# EAGLE library part QUAD_A/D (library rhoban)
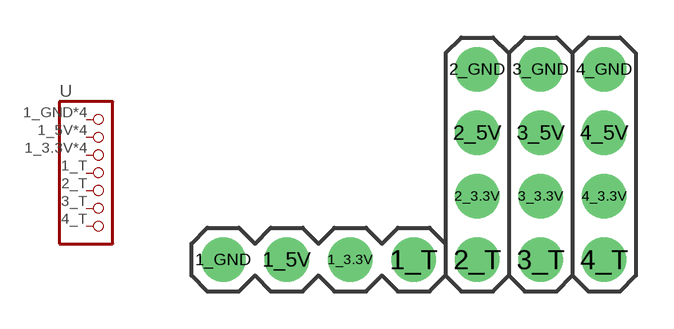
[diagram p13: symbol with the pads of QUAD_A/D; footprint QUAD_A/D]

Designator prefix -

## QUAD_A/D  [QUAD_A/D]
1_3.3V  3  pas
1_5V  2  pas
1_GND  1  pas
1_T  4  pas
2_3.3V  3  pas
2_5V  2  pas
2_GND  1  pas
2_T  5  pas
3_3.3V  3  pas
3_5V  2  pas
3_GND  1  pas
3_T  6  pas
4_3.3V  3  pas
4_5V  2  pas
4_GND  1  pas
4_T  7  pas

## Footprint QUAD_A/D (pad centres in mm)
drill 1 pad 1.778: 1_3.3V 6.35,1.27; 1_5V 3.81,1.27; 1_GND 1.27,1.27; 1_T 8.89,1.27; 2_3.3V 11.43,3.81; 2_5V 11.43,6.35; 2_GND 11.43,8.89; 2_T 11.43,1.27; 3_3.3V 13.97,3.81; 3_5V 13.97,6.35; 3_GND 13.97,8.89; 3_T 13.97,1.27; 4_3.3V 16.51,3.81; 4_5V 16.51,6.35; 4_GND 16.51,8.89; 4_T 16.51,1.27